# Altium footprint library 29197.PcbLib: 67 footprints (part 2 of 5)
Each footprint in its own frame and in the unit in brackets; x right, y up, seen from the top. Pads: shape width x height; smd on the part's side, far side on the other; paste and mask are expansions set on the pad; w line width, h text height; cw(c..) or ccw(c..) is an arc to the next point about the centre after c.
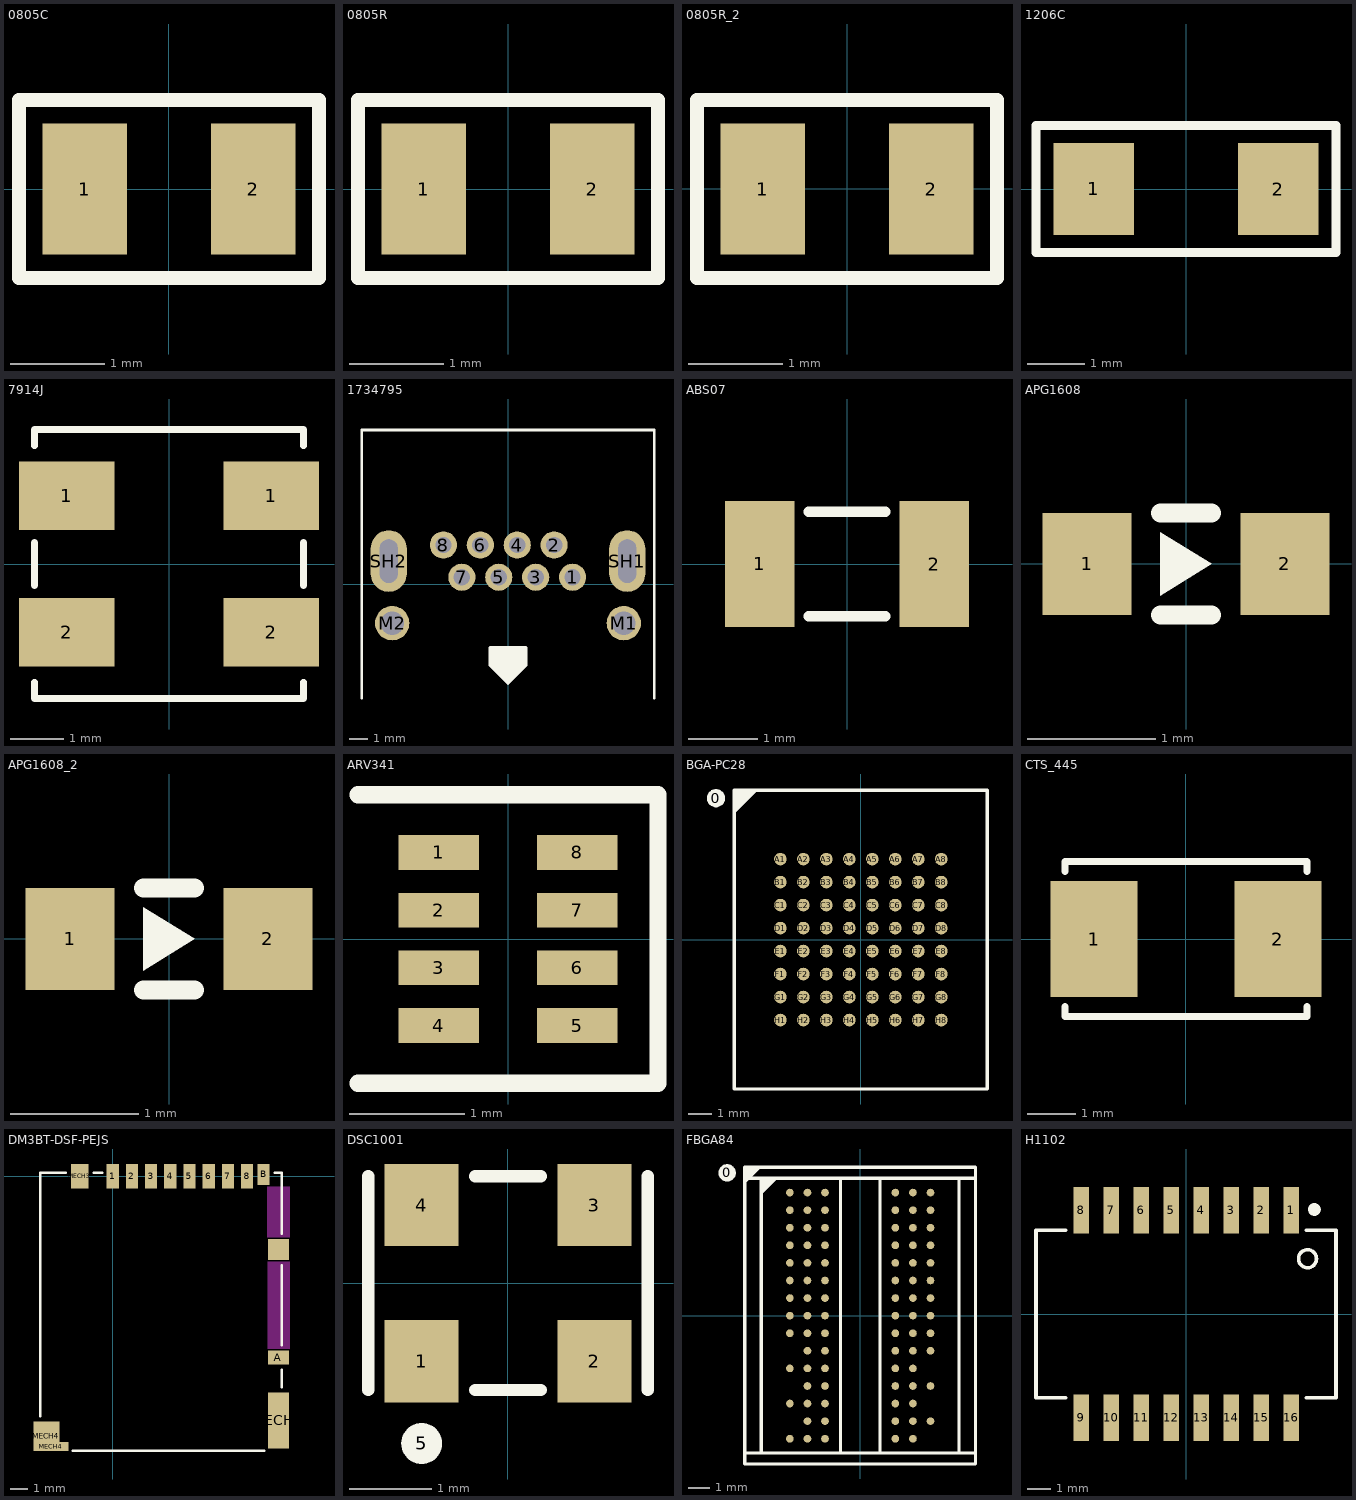
[diagram p1: the footprints below, top view; thin cyan lines are the x and y axes]

## 0805C [mm]
pads (2):
  rect 0.9x1.4 smd paste-10: 1(-0.9,0) 2(0.9,0)
Top Overlay:
  lines w0.15: -1.6,-0.95 -1.6,0.95 1.6,0.95 1.6,-0.95 -1.6,-0.95
Top Paste:
  region: -1.325,0.675 -1.325,-0.675 -0.729,-0.675 -0.45,0 -0.729,0.675
  region: 1.325,-0.675 1.325,0.675 0.729,0.675 0.45,0 0.729,-0.675
3D body: height 1.22, standoff 0.03, extent -0.5,-0.6 0.5,0.6
3D body: height 1.25, standoff 0, extent 0.5,-0.625 1,0.625
3D body: height 1.25, standoff 0, extent -1,-0.625 -0.5,0.625

## 0805R [mm]
pads (2):
  rect 0.9x1.4 smd paste-10: 1(-0.9,0) 2(0.9,0)
Top Overlay:
  lines w0.15: -1.6,-0.95 1.6,-0.95 1.6,0.95 -1.6,0.95 -1.6,-0.95
Top Paste:
  region: 1.325,-0.675 1.325,0.675 0.729,0.675 0.45,0 0.729,-0.675
  region: -1.325,0.675 -1.325,-0.675 -0.729,-0.675 -0.45,0 -0.729,0.675
3D body: height 0.6, standoff 0.58, extent -0.55,-0.6 0.55,0.6
3D body: height 0.58, standoff 0.03, extent -0.975,-0.65 0.975,0.65
3D body: height 0.6, standoff 0.58, extent -0.975,-0.65 -0.6,0.65
3D body: height 0.03, standoff 0, extent -0.975,-0.65 -0.6,0.65
3D body: height 0.6, standoff 0, extent -1,-0.65 -0.975,0.65
3D body: height 0.6, standoff 0, extent 0.975,-0.65 1,0.65
3D body: height 0.03, standoff 0, extent 0.6,-0.65 0.975,0.65
3D body: height 0.6, standoff 0.58, extent 0.6,-0.65 0.975,0.65

## 0805R_2 [mm]
pads (2):
  rect 0.9x1.4 smd paste-10: 1(-0.9,0) 2(0.9,0)
Top Overlay:
  lines w0.15: -1.6,-0.95 1.6,-0.95 1.6,0.95 -1.6,0.95 -1.6,-0.95
Top Paste:
  region: 1.325,-0.675 1.325,0.675 0.729,0.675 0.45,0 0.729,-0.675
  region: -1.325,0.675 -1.325,-0.675 -0.729,-0.675 -0.45,0 -0.729,0.675
3D body: height 0.6, standoff 0.58, extent -0.55,-0.6 0.55,0.6
3D body: height 0.58, standoff 0.03, extent -0.975,-0.65 0.975,0.65
3D body: height 0.6, standoff 0.58, extent -0.975,-0.65 -0.6,0.65
3D body: height 0.03, standoff 0, extent -0.975,-0.65 -0.6,0.65
3D body: height 0.6, standoff 0, extent -1,-0.65 -0.975,0.65
3D body: height 0.6, standoff 0, extent 0.975,-0.65 1,0.65
3D body: height 0.03, standoff 0, extent 0.6,-0.65 0.975,0.65
3D body: height 0.6, standoff 0.58, extent 0.6,-0.65 0.975,0.65

## 1206C [mm]
height 2.438
pads (2):
  rect 1.4x1.6 smd paste-10: 1(-1.6,0) 2(1.6,0)
Top Overlay:
  lines w0.15: -2.6,-1.1 -2.6,1.1 2.6,1.1 2.6,-1.1 -2.6,-1.1
Top Paste:
  region: -2.275,-0.775 -2.275,0.775 -1.4,0.775 -0.9,0 -1.4,-0.775
  region: 2.275,0.775 2.275,-0.775 1.4,-0.775 0.9,0 1.4,0.775
3D body: height 1.78, standoff 0, extent -1.6,-0.8 -1.1,0.8
3D body: height 1.76, standoff 0.03, extent -1.1,-0.775 1.1,0.775
3D body: height 1.78, standoff 0, extent 1.1,-0.8 1.6,0.8

## 7914J [mm] "Bourns SPNO switch"
height 4
pads (4):
  rect 1.78x1.27 smd: 1(-1.9,1.27) 1(1.9,1.27) 2(-1.9,-1.27) 2(1.9,-1.27)
Top Overlay:
  lines w0.127: -2.5,-2.2 -2.5,-2.5 2.5,-2.5 2.5,-2.2 ; -2.5,-0.4 -2.5,0.4 ; -2.5,2.2 -2.5,2.5 2.5,2.5 2.5,2.2 ; 2.5,-0.4 2.5,0.4
3D body "7914J-1-000.stp": height 4.13, standoff 0.01, extent -2.514,-2.502 2.515,2.502

## 1734795 [mm]
pads (12):
  round 1.5 hole 0.9: 1(3.57,0.38) 2(2.55,2.16) 3(1.53,0.38) 4(0.51,2.16) 5(-0.51,0.38) 6(-1.53,2.16) 7(-2.55,0.38) 8(-3.57,2.16)
  round 1.9 hole 1.3: M1(6.4,-2.16) M2(-6.4,-2.16)
  oval 2x3.4 hole 1 slot 2.4 at 90 deg: SH1(6.59,1.27) SH2(-6.59,1.27)
Top Overlay:
  region: 1,-3.5 1,-4.5 0,-5.5 -1,-4.5 -1,-3.5
  lines w0.15: -8.09,-6.29 -8.09,8.51 8.09,8.51 8.09,-6.29 ; -1,-4.5 0,-5.5 1,-4.5 1,-3.5 -1,-3.5 -1,-4.5
3D body "c-1734795-1-c-3d.stp": height 11.35, standoff -2.35, extent -8.09,-6.49 8.09,8.51

## ABS07 [mm]
height 2.438
pads (2):
  rect 1x1.8 smd: 1(-1.25,0) 2(1.25,0)
Top Overlay:
  lines w0.15: -0.55,-0.75 0.55,-0.75 ; -0.55,0.75 0.55,0.75
3D body: height 0.85, standoff 0.1, extent -1.6,-0.75 1.6,0.75
3D body: height 0.9, standoff 0.15, extent -1.55,-0.7 1.55,0.7

## APG1608 [mm]
height 2.5
pads (2):
  rect 0.7x0.8 smd: 1(-0.775,0) 2(0.775,0)
Top Overlay:
  region: 0.2,0 -0.2,0.25 -0.2,-0.25
  lines w0.15: -0.2,-0.4 0.2,-0.4 ; -0.2,0.4 0.2,0.4
3D body: height 0.25, standoff 0.09, extent -0.6,-0.395 0.6,0.395
3D body: height 0.1, standoff 0, extent -0.5,-0.4 0.5,0.4
3D body: height 0.1, standoff 0, extent -0.8,-0.4 -0.5,0.4
3D body: height 0.1, standoff 0, extent 0.5,-0.4 0.8,0.4

## APG1608_2 [mm]
pads (2):
  rect 0.7x0.8 smd: 1(-0.775,0) 2(0.775,0)
Top Overlay:
  region: 0.2,0 -0.2,0.25 -0.2,-0.25
  lines w0.15: -0.2,-0.4 0.2,-0.4 ; -0.2,0.4 0.2,0.4
3D body: height 0.25, standoff 0.09, extent -0.6,-0.395 0.6,0.395
3D body: height 0.1, standoff 0, extent -0.5,-0.4 0.5,0.4
3D body: height 0.1, standoff 0, extent -0.8,-0.4 -0.5,0.4
3D body: height 0.1, standoff 0, extent 0.5,-0.4 0.8,0.4

## ARV341 [mm]
height 2.438
pads (8):
  rect 0.7x0.3 smd paste-0.025: 1(-0.6,0.75) 2(-0.6,0.25) 3(-0.6,-0.25) 4(-0.6,-0.75) 5(0.6,-0.75) 6(0.6,-0.25) 7(0.6,0.25) 8(0.6,0.75)
Top Overlay:
  lines w0.15: -1.3,-1.25 1.3,-1.25 1.3,1.25 -1.3,1.25
3D body: height 0.4, standoff 0, extent -0.35,-1 0.35,1
3D body: height 0.4, standoff 0, extent 0.35,-0.4 0.5,-0.1
3D body: height 0.4, standoff 0, extent 0.35,0.6 0.5,1
3D body: height 0.4, standoff 0, extent 0.35,0.1 0.5,0.4
3D body: height 0.4, standoff 0, extent 0.35,-1 0.5,-0.6
3D body: height 0.4, standoff 0, extent -0.5,-1 -0.35,-0.6
3D body: height 0.4, standoff 0, extent -0.5,-0.4 -0.35,-0.1
3D body: height 0.4, standoff 0, extent -0.5,0.1 -0.35,0.4
3D body: height 0.4, standoff 0, extent -0.5,0.6 -0.35,1

## BGA-PC28 [mm]
height 2.438
pads (65):
  round 0.8 on Top Overlay paste-1 mask+0.5: 0(-6.3,6.15)
  round 0.55 smd mask+0.07: A1(-3.5,3.5) A2(-2.5,3.5) A3(-1.5,3.5) A4(-0.5,3.5) A5(0.5,3.5) A6(1.5,3.5) A7(2.5,3.5) A8(3.5,3.5) B1(-3.5,2.5) B2(-2.5,2.5) B3(-1.5,2.5) B4(-0.5,2.5) B5(0.5,2.5) B6(1.5,2.5) B7(2.5,2.5) B8(3.5,2.5) C1(-3.5,1.5) C2(-2.5,1.5) C3(-1.5,1.5) C4(-0.5,1.5) C5(0.5,1.5) C6(1.5,1.5) C7(2.5,1.5) C8(3.5,1.5) D1(-3.5,0.5) D2(-2.5,0.5) D3(-1.5,0.5) D4(-0.5,0.5) D5(0.5,0.5) D6(1.5,0.5) D7(2.5,0.5) D8(3.5,0.5) E1(-3.5,-0.5) E2(-2.5,-0.5) E3(-1.5,-0.5) E4(-0.5,-0.5) E5(0.5,-0.5) E6(1.5,-0.5) E7(2.5,-0.5) E8(3.5,-0.5) F1(-3.5,-1.5) F2(-2.5,-1.5) F3(-1.5,-1.5) F4(-0.5,-1.5) F5(0.5,-1.5) F6(1.5,-1.5) F7(2.5,-1.5) F8(3.5,-1.5) G1(-3.5,-2.5) G2(-2.5,-2.5) G3(-1.5,-2.5) G4(-0.5,-2.5) G5(0.5,-2.5) G6(1.5,-2.5) G7(2.5,-2.5) G8(3.5,-2.5) H1(-3.5,-3.5) H2(-2.5,-3.5) H3(-1.5,-3.5) H4(-0.5,-3.5) H5(0.5,-3.5) H6(1.5,-3.5) H7(2.5,-3.5) H8(3.5,-3.5)
Top Overlay:
  region: -5.5,6.5 -5.5,5.475 -4.475,6.5
  lines w0.15: -5.5,-6.5 -5.5,6.5 5.5,6.5 5.5,-6.5 -5.5,-6.5
3D body: height 0.9, standoff 0.1, extent -5.5,-6.5 5.5,6.5

## CTS_445 [mm]
height 2.438
pads (2):
  rect 1.8x2.4 smd paste-0.025: 1(-1.9,0) 2(1.9,0)
Top Overlay:
  lines w0.15: -2.5,-1.4 -2.5,-1.6 2.5,-1.6 2.5,-1.4 ; -2.5,1.4 -2.5,1.6 2.5,1.6 2.5,1.4
3D body: height 0.45, standoff 0.1, extent 1.2,-1 2.49,1
3D body: height 0.45, standoff 0.1, extent -2.49,-1 -1.2,1
3D body: height 1.35, standoff 0.11, extent -2.4,-1.5 2.4,1.5
3D body: height 1, standoff 0.1, extent -2.5,-1.6 2.5,1.6

## DM3BT-DSF-PEJS [mm]
height 1.75
pads (15):
  rect 0.7x1.4 smd paste-0.025: 1(0,0) 2(1.1,0) 3(2.2,0) 4(3.3,0) 5(4.4,0) 6(5.5,0) 7(6.6,0) 8(7.7,0)
  rect 1.2x0.8 smd paste-0.025: A(9.5,-10.4)
  rect 0.7x1.2 smd paste-0.025: B(8.65,0.1)
  rect 1.2x3.2 smd paste-0.025: MECH1(9.5,-14)
  rect 1.2x1.2 smd paste-0.025: MECH2(9.5,-4.2)
  rect 1x1.4 smd paste-0.025: MECH3(-1.9,0)
  rect 1.5x1.7 smd paste-0.025: MECH4(-3.8,-14.9)
  rect 2x0.5 smd paste-0.025: MECH4(-3.55,-15.5)
Top Layer keep-out:
  rectangle: 8.875,-9.9 10.175,-4.9
  rectangle: 8.85,-3.5 10.15,-0.6
Top Overlay:
  lines w0.15: -4.15,-13.75 -4.15,0.2 -2.7,0.2 ; -2.3,-15.75 8.675,-15.75 ; -1.1,0.2 -0.6,0.2 ; 9.3,0.2 9.7,0.2 9.7,-3.3 ; 9.7,-12.1 9.7,-11.1 ; 9.7,-9.7 9.7,-5.1
3D body "DM3BT-DSF-PEJS.stp": height 1.85, standoff 0.02, extent -4.15,-17.35 9.7,0.2

## DSC1001 [mm]
height 2.438
pads (5):
  rect 0.9x1 smd: 1(-1.05,-0.95) 2(1.05,-0.95) 3(1.05,0.95) 4(-1.05,0.95)
  round 0.5 on Top Overlay: 5(-1.05,-1.95)
Top Overlay:
  lines w0.15: -1.7,-1.3 -1.7,1.3 ; -0.4,-1.3 0.4,-1.3 ; -0.4,1.3 0.4,1.3 ; 1.7,-1.3 1.7,1.3
3D body: height 0.7, standoff 0.05, extent -1.65,-1.25 1.65,1.25
3D body: height 0.85, standoff 0.1, extent -1.5,-1.1 1.5,1.1

## FBGA84 [mm]
pads (85):
  round 0.8 on Top Overlay paste-1 mask+0.5: 0(-6.05,6.5)
  round 0.35 smd mask+0.051: A1(-3.2,5.6) A2(-2.4,5.6) A3(-1.6,5.6) A7(1.6,5.6) A8(2.4,5.6) A9(3.2,5.6) B1(-3.2,4.8) B2(-2.4,4.8) B3(-1.6,4.8) B7(1.6,4.8) B8(2.4,4.8) B9(3.2,4.8) C1(-3.2,4) C2(-2.4,4) C3(-1.6,4) C7(1.6,4) C8(2.4,4) C9(3.2,4) D1(-3.2,3.2) D2(-2.4,3.2) D3(-1.6,3.2) D7(1.6,3.2) D8(2.4,3.2) D9(3.2,3.2) E1(-3.2,2.4) E2(-2.4,2.4) E3(-1.6,2.4) E7(1.6,2.4) E8(2.4,2.4) E9(3.2,2.4) F1(-3.2,1.6) F2(-2.4,1.6) F3(-1.6,1.6) F7(1.6,1.6) F8(2.4,1.6) F9(3.2,1.6) G1(-3.2,0.8) G2(-2.4,0.8) G3(-1.6,0.8) G7(1.6,0.8) G8(2.4,0.8) G9(3.2,0.8) H1(-3.2,0) H2(-2.4,0) H3(-1.6,0) H7(1.6,0) H8(2.4,0) H9(3.2,0) J1(-3.2,-0.8) J2(-2.4,-0.8) J3(-1.6,-0.8) J7(1.6,-0.8) J8(2.4,-0.8) J9(3.2,-0.8) K2(-2.4,-1.6) K3(-1.6,-1.6) K7(1.6,-1.6) K8(2.4,-1.6) K9(3.2,-1.6) L1(-3.2,-2.4) L2(-2.4,-2.4) L3(-1.6,-2.4) L7(1.6,-2.4) L8(2.4,-2.4) M2(-2.4,-3.2) M3(-1.6,-3.2) M7(1.6,-3.2) M8(2.4,-3.2) M9(3.2,-3.2) N1(-3.2,-4) N2(-2.4,-4) N3(-1.6,-4) N7(1.6,-4) N8(2.4,-4) P2(-2.4,-4.8) P3(-1.6,-4.8) P7(1.6,-4.8) P8(2.4,-4.8) P9(3.2,-4.8) R1(-3.2,-5.6) R2(-2.4,-5.6) R3(-1.6,-5.6) R7(1.6,-5.6) R8(2.4,-5.6)
Top Overlay:
  region: -4.5,6.25 -4.5,5.5 -3.75,6.25
  region: -5.25,6.75 -5.25,6 -4.5,6.75
  lines w0.15: -5.25,-6.25 -4.5,-6.25 ; -5.1,6.25 -4.5,6.25 ; -0.9,-6.25 -0.9,6.25 ; 0.9,-6.25 0.9,6.25 ; 5.25,-6.25 4.5,-6.25 ; 5.25,6.25 4.5,6.25 ; -4.5,-6.25 -4.5,6.25 ; -4.5,-6.25 4.5,-6.25 ; -4.5,6.25 4.5,6.25 ; 4.5,-6.25 4.5,6.25 ; -5.25,-6.75 5.25,-6.75 5.25,6.75 -5.25,6.75 -5.25,-6.75
3D body: height 1.2, standoff 0.2, extent -4.5,-6.25 4.5,6.25

## H1102 [mm]
height 2.438
pads (16):
  rect 0.65x1.95 smd paste-0.025: 1(4.445,4.393) 2(3.175,4.393) 3(1.905,4.393) 4(0.635,4.393) 5(-0.635,4.393) 6(-1.905,4.393) 7(-3.175,4.393) 8(-4.445,4.393) 9(-4.445,-4.393) 10(-3.175,-4.393) 11(-1.905,-4.393) 12(-0.635,-4.393) 13(0.635,-4.393) 14(1.905,-4.393) 15(3.175,-4.393) 16(4.445,-4.393)
Top Overlay:
  circle w0.15: c5.139,2.34 r0.381
  circle w0.3: c5.43,4.425 r0.12
  lines w0.15: -5.1,-3.55 -6.355,-3.55 -6.355,3.55 -5.1,3.55 ; 5.09,-3.55 6.345,-3.55 6.345,3.55 5.09,3.55
3D body: height 6, standoff 0.05, extent -6.355,-3.55 6.345,3.55